# EAGLE library part L01-3,2VA (library trafo-alfamag)
TOROID TRANSFORMER
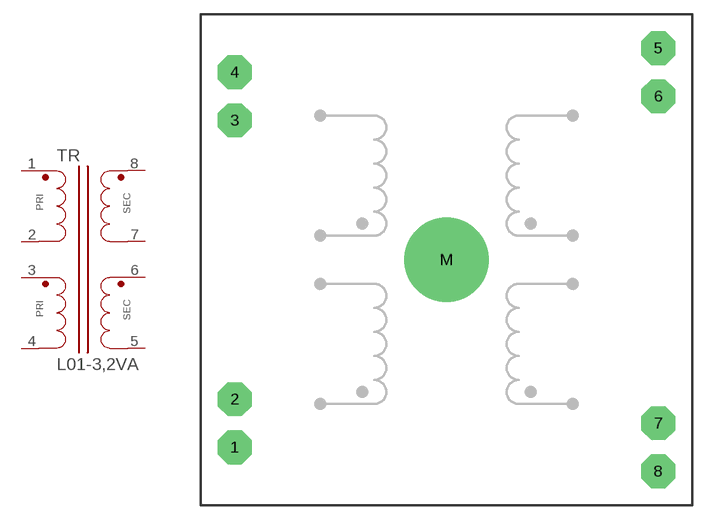
[diagram p7: symbol with the pads of L01-3,2VA; footprint L01-3,2VA]

Designator prefix TR

## L01-3,2VA  [L01-3,2VA]
1  1  pas
2  2  pas
3  3  pas
4  4  pas
5  5  pas
6  6  pas
7  7  pas
8  8  pas

## Footprint L01-3,2VA (pad centres in mm)
TOROID TRANSFORMER L x W x H = 44.7 x 44.7 x 19.5 mm X x Y = 40.64 x 40.64 mm
drill 1.422 pad 3.556 octagon: 1 -22.35,-19.81; 2 -22.35,-14.73; 3 -22.35,14.73; 4 -22.35,19.81; 5 22.35,22.35; 6 22.35,17.27; 7 22.35,-17.27; 8 22.35,-22.35
drill 4.699 pad 8.89: M 0,0